# Altium footprint library Tiresias_logic.PcbLib: 8 footprints
Each footprint in its own frame and in the unit in brackets; x right, y up, seen from the top. Pads: shape width x height; smd on the part's side, far side on the other; paste and mask are expansions set on the pad; w line width, h text height; cw(c..) or ccw(c..) is an arc to the next point about the centre after c.
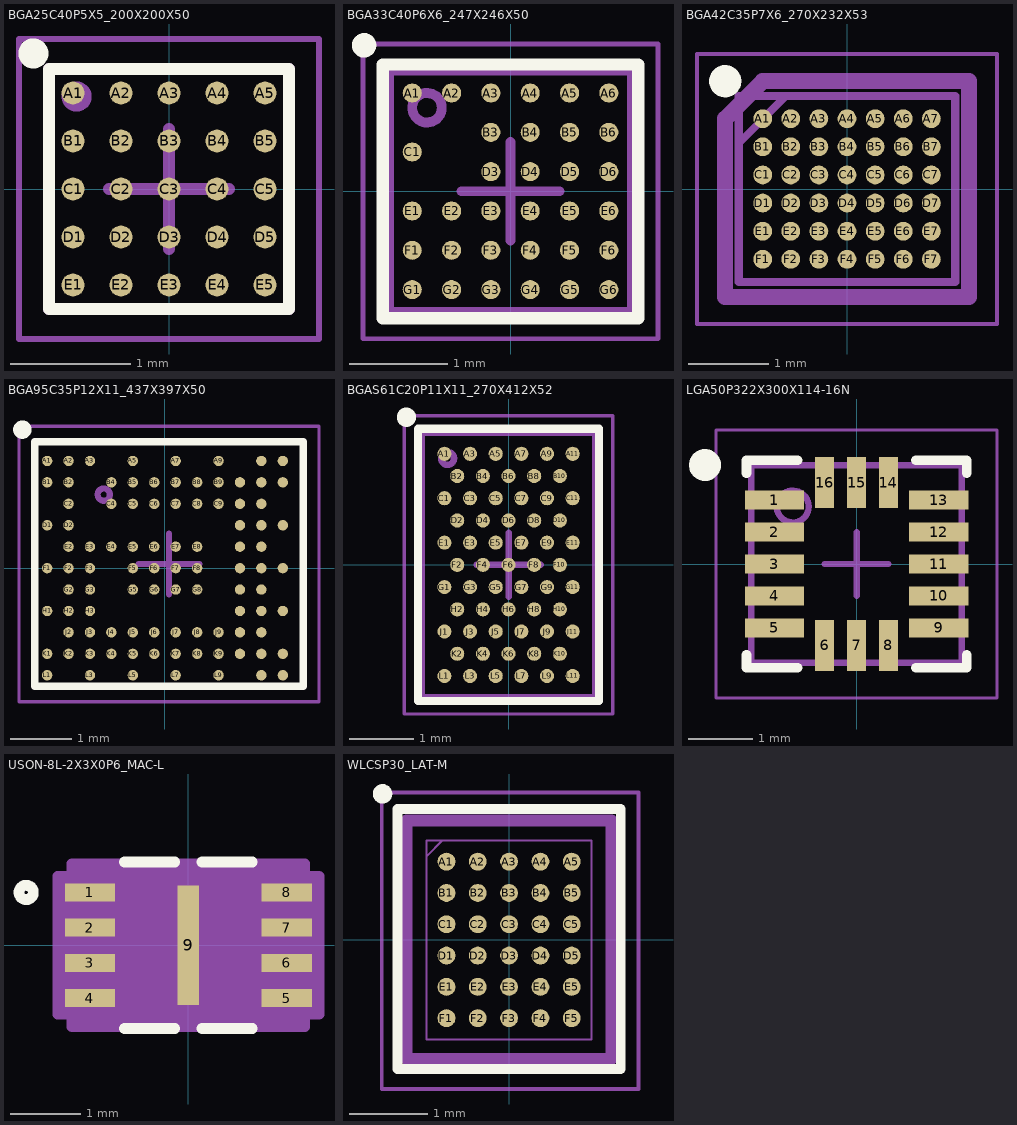
[diagram p0: the footprints below, top view; thin cyan lines are the x and y axes]

## BGA25C40P5X5_200X200X50 [mm]
pads (25):
  round 0.193 smd: A1(-0.8,0.8) A2(-0.4,0.8) A3(0,0.8) A4(0.4,0.8) A5(0.8,0.8) B1(-0.8,0.4) B2(-0.4,0.4) B3(0,0.4) B4(0.4,0.4) B5(0.8,0.4) C1(-0.8,0) C2(-0.4,0) C3(0,0) C4(0.4,0) C5(0.8,0) D1(-0.8,-0.4) D2(-0.4,-0.4) D3(0,-0.4) D4(0.4,-0.4) D5(0.8,-0.4) E1(-0.8,-0.8) E2(-0.4,-0.8) E3(0,-0.8) E4(0.4,-0.8) E5(0.8,-0.8)
Top Overlay:
  circle w0.15: c-1.13,1.13 r0.05
  lines w0.1: -1,-1 -1,1 1,1 1,-1 -1,-1
Mechanical 7:
  circle w0.15: c-0.77,0.77 r0.05
  lines w0.1: -1,-1 -1,1 1,1 1,-1 -1,-1
  text ".Designator" at 1.501,0.105 h0.3
Mechanical 15:
  lines w0.05: -1.25,-1.25 -1.25,1.25 1.25,1.25 1.25,-1.25 -1.25,-1.25
  lines w0.1: -0.5,0 0.5,0 ; 0,-0.5 0,0.5
3D body "BGA25C40P5X5_200X200X50.step": height 0.5, standoff 0, extent -1,-1 1,1

## BGA33C40P6X6_247X246X50 [mm]
pads (33):
  round 0.194 smd mask+0.05: A1(-1,1) A2(-0.6,1) A3(-0.2,1) A4(0.2,1) A5(0.6,1) A6(1,1) B3(-0.2,0.6) B4(0.2,0.6) B5(0.6,0.6) B6(1,0.6) C1(-1,0.4) D3(-0.2,0.2) D4(0.2,0.2) D5(0.6,0.2) D6(1,0.2) E1(-1,-0.2) E2(-0.6,-0.2) E3(-0.2,-0.2) E4(0.2,-0.2) E5(0.6,-0.2) E6(1,-0.2) F1(-1,-0.6) F2(-0.6,-0.6) F3(-0.2,-0.6) F4(0.2,-0.6) F5(0.6,-0.6) F6(1,-0.6) G1(-1,-1) G2(-0.6,-1) G3(-0.2,-1) G4(0.2,-1) G5(0.6,-1) G6(1,-1)
Top Overlay:
  circle w0.125: c-1.49,1.485 r0.062
  lines w0.125: -1.299,-1.291 -1.299,1.291 1.299,1.291 1.299,-1.291 -1.299,-1.291
Mechanical 7:
  circle w0.1: c-0.85,0.85 r0.15
  lines w0.1: -1.237,-1.228 1.237,-1.228 1.237,1.228 -1.237,1.228 -1.237,-1.228
  text ".Designator" at -0.4,-0.2 h0.38
Mechanical 15:
  lines w0.05: -1.5,-1.5 1.5,-1.5 1.5,1.5 -1.5,1.5 -1.5,-1.5
  lines w0.1: -0.5,0 0.5,0 ; 0,-0.5 0,0.5
3D body "BGA33C40P6X6_247X246X50.step": height 0.5, standoff 0, extent -1.235,-1.23 1.235,1.23

## BGA42C35P7X6_270X232X53 [mm]
pads (42):
  rrect100% 0.234x0.234 smd: A1(-1.05,0.875) A2(-0.7,0.875) A3(-0.35,0.875) A4(0,0.875) A5(0.35,0.875) A6(0.7,0.875) A7(1.05,0.875) B1(-1.05,0.525) B2(-0.7,0.525) B3(-0.35,0.525) B4(0,0.525) B5(0.35,0.525) B6(0.7,0.525) B7(1.05,0.525) C1(-1.05,0.175) C2(-0.7,0.175) C3(-0.35,0.175) C4(0,0.175) C5(0.35,0.175) C6(0.7,0.175) C7(1.05,0.175) D1(-1.05,-0.175) D2(-0.7,-0.175) D3(-0.35,-0.175) D4(0,-0.175) D5(0.35,-0.175) D6(0.7,-0.175) D7(1.05,-0.175) E1(-1.05,-0.525) E2(-0.7,-0.525) E3(-0.35,-0.525) E4(0,-0.525) E5(0.35,-0.525) E6(0.7,-0.525) E7(1.05,-0.525) F1(-1.05,-0.875) F2(-0.7,-0.875) F3(-0.35,-0.875) F4(0,-0.875) F5(0.35,-0.875) F6(0.7,-0.875) F7(1.05,-0.875)
Top Overlay:
  circle w0.2: c-1.517,1.342 r0.1
Mechanical 3:
  lines w0.05: -1.868,-1.68 1.867,-1.68 1.867,1.68 -1.868,1.68 -1.868,-1.68
  lines w0.1: -1.348,0.57 -0.758,1.16 ; -1.348,-1.16 1.347,-1.16 1.347,1.16 -1.348,1.16 -1.348,-1.16
Mechanical 7:
  lines w0.2: -1.517,-1.342 1.517,-1.342 1.517,1.342 -1.05,1.342 -1.517,0.875 -1.517,-1.342
3D body "ADAU1787BCBZRL.stp": height 0.29, standoff 0, extent -1.348,-1.16 1.348,1.16

## BGA95C35P12X11_437X397X50 [mm]
pads (95):
  round 0.17 smd mask+0.05: A1(-1.925,1.75) A2(-1.575,1.75) A3(-1.225,1.75) A5(-0.525,1.75) A7(0.175,1.75) A9(0.875,1.75) A11(1.575,1.75) A12(1.925,1.75) B1(-1.925,1.4) B2(-1.575,1.4) B4(-0.875,1.4) B5(-0.525,1.4) B6(-0.175,1.4) B7(0.175,1.4) B8(0.525,1.4) B9(0.875,1.4) B10(1.225,1.4) B11(1.575,1.4) B12(1.925,1.4) C2(-1.575,1.05) C4(-0.875,1.05) C5(-0.525,1.05) C6(-0.175,1.05) C7(0.175,1.05) C8(0.525,1.05) C9(0.875,1.05) C10(1.225,1.05) C11(1.575,1.05) D1(-1.925,0.7) D2(-1.575,0.7) D10(1.225,0.7) D11(1.575,0.7) D12(1.925,0.7) E2(-1.575,0.35) E3(-1.225,0.35) E4(-0.875,0.35) E5(-0.525,0.35) E6(-0.175,0.35) E7(0.175,0.35) E8(0.525,0.35) E10(1.225,0.35) E11(1.575,0.35) F1(-1.925,0) F2(-1.575,0) F3(-1.225,0) F5(-0.525,0) F6(-0.175,0) F7(0.175,0) F8(0.525,0) F10(1.225,0) F11(1.575,0) F12(1.925,0) G2(-1.575,-0.35) G3(-1.225,-0.35) G5(-0.525,-0.35) G6(-0.175,-0.35) G7(0.175,-0.35) G8(0.525,-0.35) G10(1.225,-0.35) G11(1.575,-0.35) H1(-1.925,-0.7) H2(-1.575,-0.7) H3(-1.225,-0.7) H10(1.225,-0.7) H11(1.575,-0.7) H12(1.925,-0.7) J2(-1.575,-1.05) J3(-1.225,-1.05) J4(-0.875,-1.05) J5(-0.525,-1.05) J6(-0.175,-1.05) J7(0.175,-1.05) J8(0.525,-1.05) J9(0.875,-1.05) J10(1.225,-1.05) J11(1.575,-1.05) K1(-1.925,-1.4) K2(-1.575,-1.4) K3(-1.225,-1.4) K4(-0.875,-1.4) K5(-0.525,-1.4) K6(-0.175,-1.4) K7(0.175,-1.4) K8(0.525,-1.4) K9(0.875,-1.4) K10(1.225,-1.4) K11(1.575,-1.4) K12(1.925,-1.4) L1(-1.925,-1.75) L3(-1.225,-1.75) L5(-0.525,-1.75) L7(0.175,-1.75) L9(0.875,-1.75) L11(1.575,-1.75) L12(1.925,-1.75)
Top Overlay:
  circle w0.2: c-2.329,2.262 r0.05
  lines w0.125: -2.129,-1.93 2.261,-1.93 2.261,2.064 -2.129,2.064 -2.129,-1.93
Mechanical 7:
  circle w0.1: c-1,1.2 r0.1
  lines w0.1: -2.129,-1.93 2.261,-1.93 2.261,2.064 -2.129,2.064 -2.129,-1.93
  text ".Designator" at -1.524,-0.102 h0.3
Mechanical 15:
  lines w0.05: -2.384,-2.183 -2.384,2.317 2.516,2.317 2.516,-2.183 -2.384,-2.183
  lines w0.1: -0.434,0.067 0.566,0.067 ; 0.066,-0.433 0.066,0.567
3D body "nRF5340-CLAA.sldprt": height 0.41, standoff -0.01, extent -2.129,-1.93 2.261,2.064

## BGAS61C20P11X11_270X412X52 [mm]
pads (61):
  round 0.22 smd: A1(-1,1.732) A3(-0.6,1.732) A5(-0.2,1.732) A7(0.2,1.732) A9(0.6,1.732) A11(1,1.732) B2(-0.8,1.386) B4(-0.4,1.386) B6(0,1.386) B8(0.4,1.386) B10(0.8,1.386) C1(-1,1.039) C3(-0.6,1.039) C5(-0.2,1.039) C7(0.2,1.039) C9(0.6,1.039) C11(1,1.039) D2(-0.8,0.693) D4(-0.4,0.693) D6(0,0.693) D8(0.4,0.693) D10(0.8,0.693) E1(-1,0.346) E3(-0.6,0.346) E5(-0.2,0.346) E7(0.2,0.346) E9(0.6,0.346) E11(1,0.346) F2(-0.8,0) F4(-0.4,0) F6(0,0) F8(0.4,0) F10(0.8,0) G1(-1,-0.346) G3(-0.6,-0.346) G5(-0.2,-0.346) G7(0.2,-0.346) G9(0.6,-0.346) G11(1,-0.346) H2(-0.8,-0.693) H4(-0.4,-0.693) H6(0,-0.693) H8(0.4,-0.693) H10(0.8,-0.693) J1(-1,-1.039) J3(-0.6,-1.039) J5(-0.2,-1.039) J7(0.2,-1.039) J9(0.6,-1.039) J11(1,-1.039) K2(-0.8,-1.386) K4(-0.4,-1.386) K6(0,-1.386) K8(0.4,-1.386) K10(0.8,-1.386) L1(-1,-1.732) L3(-0.6,-1.732) L5(-0.2,-1.732) L7(0.2,-1.732) L9(0.6,-1.732) L11(1,-1.732)
Top Overlay:
  circle w0.2: c-1.593,2.303 r0.05
  lines w0.125: -1.412,-2.123 -1.412,2.123 1.412,2.123 ; -1.412,-2.122 1.412,-2.122 1.412,2.123
Mechanical 7:
  circle w0.1: c-0.95,1.66 r0.1
  lines w0.1: -1.35,-2.06 -1.35,2.06 1.35,2.06 1.35,-2.06 -1.35,-2.06
  text ".Designator" at -0.102,1.524 h0.3
Mechanical 15:
  lines w0.05: -1.625,-2.325 -1.625,2.325 1.625,2.325 1.625,-2.325 -1.625,-2.325
  lines w0.1: -0.5,0 0.5,0 ; 0,-0.5 0,0.5
3D body "BGAS61C20P11X11_270X412X52.step": height 0.52, standoff 0, extent -1.35,-2.06 1.35,2.06

## LGA50P322X300X114-16N [mm]
pads (16):
  rect 0.925x0.3 smd: 1(-1.288,1) 2(-1.288,0.5) 3(-1.288,0) 4(-1.288,-0.5) 5(-1.288,-1) 9(1.288,-1) 10(1.288,-0.5) 11(1.288,0) 12(1.288,0.5) 13(1.288,1)
  rect 0.3x0.8 smd: 6(-0.5,-1.275) 7(0,-1.275) 8(0.5,-1.275) 14(0.5,1.275) 15(0,1.275) 16(-0.5,1.275)
Top Overlay:
  circle w0.25: c-2.375,1.55 r0.125
  lines w0.15: -1.725,-1.425 -1.725,-1.625 -0.925,-1.625 ; -1.725,1.425 -1.725,1.625 -0.925,1.625 ; 0.925,-1.625 1.725,-1.625 1.725,-1.425 ; 0.925,1.625 1.725,1.625 1.725,1.425
Mechanical 7:
  circle w0.1: c-1,0.9 r0.25
  lines w0.1: -1.65,-1.55 -1.65,1.55 1.65,1.55 1.65,-1.55 -1.65,-1.55
Mechanical 15:
  lines w0.05: -2.2,-2.1 -2.2,2.1 2.2,2.1 2.2,-2.1 -2.2,-2.1
  lines w0.1: -0.5,0 0.5,0 ; 0,-0.5 0,0.5
3D body "LGA50P322X300X114-16N.step": height 1.14, standoff 0, extent -1.65,-1.55 1.65,1.55

## USON-8L-2X3X0P6_MAC-L [mil]
pads (9):
  rect 28x10 smd paste+0 mask+0: 1(-55,29.53) 2(-55,9.84) 3(-55,-9.84) 4(-55,-29.53) 5(55,-29.53) 6(55,-9.84) 7(55,9.84) 8(55,29.53)
  rect 12x67 smd paste+0 mask+0: 9(0,0)
Top Overlay:
  circle w6: c-90.69,29.53 r4
  lines w6: -35.68,-46.5 -7.62,-46.5 ; -35.68,46.5 -7.62,46.5 ; 7.62,-46.5 35.68,-46.5 ; 7.62,46.5 35.68,46.5
Mechanical 13:
  circle w0: c-41,29.53 r3
  lines w0: -12,41.5 ccw(c0,41.5) 12,41.5
  lines w1: -61,-41.5 -61,41.5 61,41.5 61,-41.5 -61,-41.5
Mechanical 15:
  region: -65,-38.53 -73,-38.53 -73,38.53 -65,38.53 -65,45.5 65,45.5 65,38.53 73,38.53 73,-38.53 65,-38.53 65,-45.5 -65,-45.5
  lines w6: -73,-38.53 -65,-38.53 -65,-45.5 65,-45.5 65,-38.53 73,-38.53 73,38.53 65,38.53 65,45.5 -65,45.5 -65,38.53 -73,38.53 -73,-38.53
3D body "USON-8L-2X3X0P6_MAC.step": height 24.09, standoff 0, extent -60.98,-41.5 60.98,41.5

## WLCSP30_LAT-M [mil]
pads (30):
  round 9 smd paste+0 mask+0: A1(-31.5,39.37) A2(-15.75,39.37) A3(0,39.37) A4(15.75,39.37) A5(31.5,39.37) B1(-31.5,23.62) B2(-15.75,23.62) B3(0,23.62) B4(15.75,23.62) B5(31.5,23.62) C1(-31.5,7.87) C2(-15.75,7.87) C3(0,7.87) C4(15.75,7.87) C5(31.5,7.87) D1(-31.5,-7.87) D2(-15.75,-7.87) D3(0,-7.87) D4(15.75,-7.87) D5(31.5,-7.87) E1(-31.5,-23.62) E2(-15.75,-23.62) E3(0,-23.62) E4(15.75,-23.62) E5(31.5,-23.62) F1(-31.5,-39.37) F2(-15.75,-39.37) F3(0,-39.37) F4(15.75,-39.37) F5(31.5,-39.37)
Top Overlay:
  circle w4.92: c-63.66,73.46 r2.44
  lines w4.92: -56.16,-65 -56.16,65.81 ; -55,-65 56.16,-65 56.16,65.81 -55,65.81
Mechanical 13:
  lines w1: -41.5,42.13 -33.63,50 ; -41.5,-50 -41.5,50 41.5,50 41.5,-50 -41.5,-50
Mechanical 15:
  lines w1.97: -64.06,-75 65,-75 65,74.06 -64.06,74.06 -64.06,-75
  lines w6: -51.5,-60 51.5,-60 51.5,60 -51.5,60 -51.5,-60
3D body "WLCSP30_LAT.step": height 24.09, standoff 0.01, extent -41.5,-50 41.5,50